# Altium footprint library PcbLib1.PcbLib: 25 footprints (part 2 of 2)
Each footprint in its own frame and in the unit in brackets; x right, y up, seen from the top. Pads: shape width x height; smd on the part's side, far side on the other; paste and mask are expansions set on the pad; w line width, h text height; cw(c..) or ccw(c..) is an arc to the next point about the centre after c.
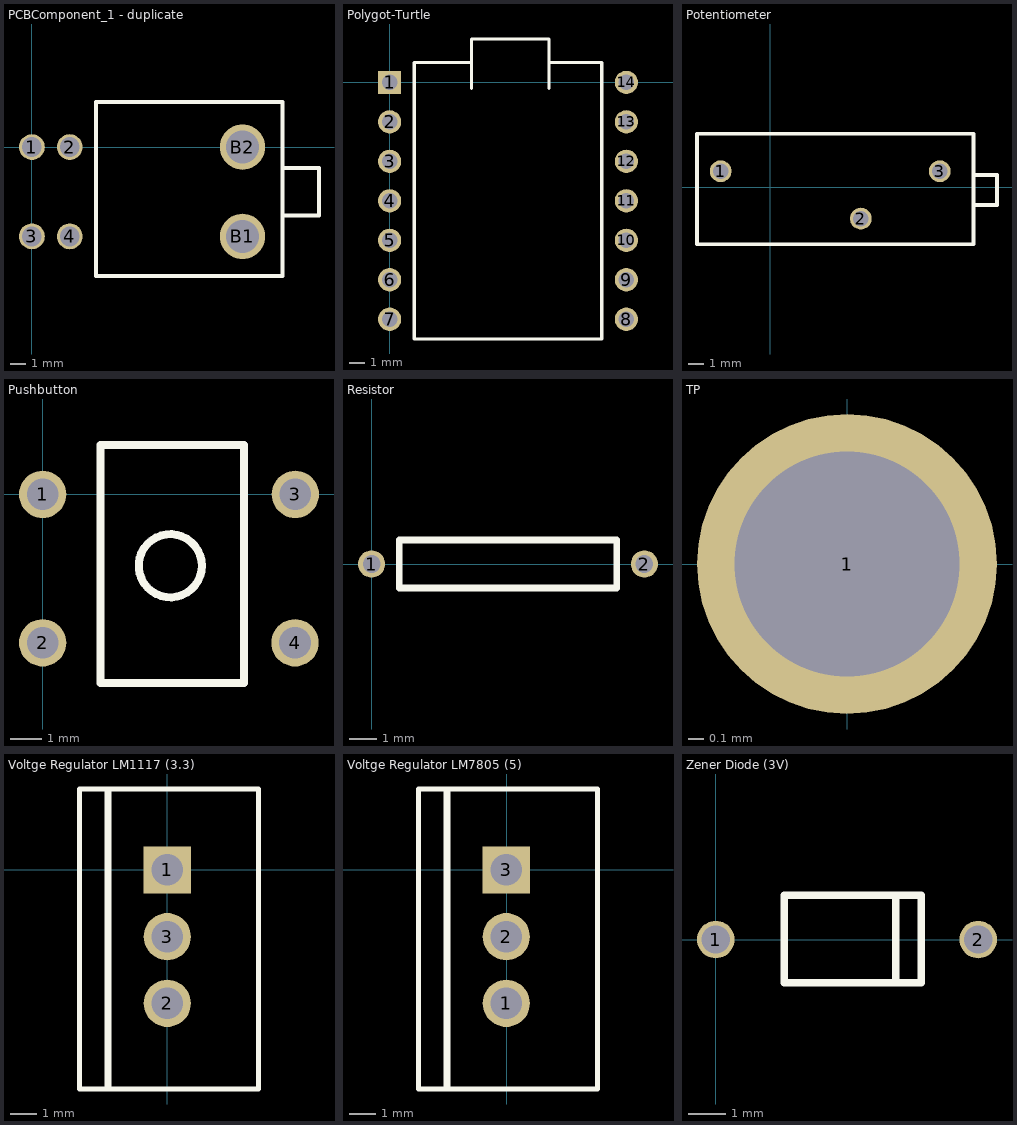
[diagram p1: the footprints below, top view; thin cyan lines are the x and y axes]

## PCBComponent_1 - duplicate [mm]
pads (6):
  round 1.7 hole 1.3: 1(0,0) 2(2.5,0) 3(0,-5.9) 4(2.5,-5.9)
  round 3 hole 2.2: B1(13.9,-5.9) B2(13.9,0)
Top Overlay:
  lines w0.254: 16.56,-1.38 18.95,-1.38 18.95,-4.53 17.84,-4.53 16.66,-4.53 ; 4.24,-8.52 16.54,-8.52 16.54,2.98 4.24,2.98 4.24,-8.52

## Polygot-Turtle [mm]
pads (14):
  rect 1.5x1.5 hole 1: 1(0,0)
  round 1.5 hole 1: 2(0,-2.54) 3(0,-5.08) 4(0,-7.62) 5(0,-10.16) 6(0,-12.7) 7(0,-15.24) 8(15.24,-15.24) 9(15.24,-12.7) 10(15.24,-10.16) 11(15.24,-7.62) 12(15.24,-5.08) 13(15.24,-2.54) 14(15.24,0)
Top Overlay:
  lines w0.2: 1.575,1.27 5.22,1.27 ; 1.585,1.27 1.585,-16.51 13.655,-16.51 13.655,1.27 ; 5.283,-0.381 5.283,2.794 10.262,2.794 10.262,-0.381 ; 10.325,1.27 13.665,1.27

## Potentiometer [mm]
pads (3):
  round 1.4 hole 1: 1(-3.175,1.016) 2(5.842,-2.032) 3(10.922,1.016)
Top Overlay:
  lines w0.254: 13.081,-1.143 14.605,-1.143 14.605,0.762 13.081,0.762 ; -4.699,-3.683 -4.699,3.429 13.081,3.429 13.081,2.54 13.081,-3.683 -4.699,-3.683

## Pushbutton [mm]
pads (4):
  round 1.5 hole 1: 1(0,0) 2(0,-4.7) 3(8,0) 4(7.99,-4.7)
Top Overlay:
  circle w0.254: c4.04,-2.26 r1
  lines w0.254: 1.83,-5.97 6.37,-5.97 6.37,1.56 3.62,1.56 1.83,1.56 1.83,-5.97

## Resistor [mm]
pads (2):
  round 1 hole 0.65: 1(0,0) 2(10.033,0)
Top Overlay:
  lines w0.254: 1.016,-0.889 1.016,0 1.016,0.889 9.017,0.889 9.017,-0.889 1.016,-0.889

## TP [mm]
pads (1):
  round 2 hole 1.5: 1(0,0)

## Voltge Regulator LM1117 (3.3) [mm]
pads (3):
  rect 1.8x1.8 hole 1.2: 1(0,0)
  round 1.8 hole 1.2: 2(0,-5.08) 3(0,-2.54)
Top Overlay:
  lines w0.2: -3.34,-8.34 -3.34,3.08 3.47,3.08 3.47,-8.34 -3.34,-8.34
  lines w0.254: -2.26,-8.31 -2.26,3.01

## Voltge Regulator LM7805 (5) [mm]
pads (3):
  round 1.8 hole 1.2: 1(-0.02,-5.08) 2(-0.02,-2.54)
  rect 1.8x1.8 hole 1.2: 3(-0.02,0)
Top Overlay:
  lines w0.2: -3.36,-8.34 3.45,-8.34 3.45,3.08 -3.36,3.08 -3.36,-8.34
  lines w0.254: -2.28,-8.31 -2.28,3.01

## Zener Diode (3V) [mm]
pads (2):
  round 1 hole 0.75: 1(0,0) 2(7,0)
Top Overlay:
  lines w0.2: 4.795,-1.12 4.795,1.18 ; 1.82,-1.15 1.82,1.18 5.48,1.18 5.48,-1.15 1.82,-1.15